# Altium integrated library MFW10R.IntLib: 1 symbol
Pins are listed as number, name and electrical type; pins without a type are passive.

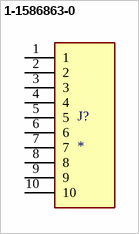
[diagram p0: symbol 1-1586863-0]

## 1-1586863-0
designator J?
MP: 1-1586863-0; Package: None; Price: None; Value: *; Availability: Unavailable
footprint TE_1-1586863-0
pins: 1, 2, 3, 4, 5, 6, 7, 8, 9, 10